# EAGLE library part NHD-0420DZW-AG5 (library Display)
20 x 4 Character OLED DIsplay Module
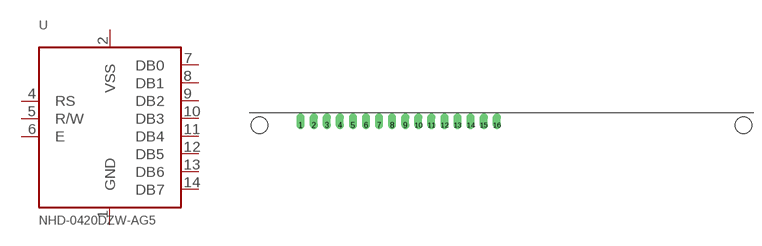
[diagram p0: symbol with the pads of CHARLCD_16PIN; footprint CHARLCD_16PIN]

Designator prefix -

## NHD-0420DZW-AG5  [CHARLCD_16PIN]
1  GND
2  VSS
4  RS
5  R/W
6  E
7  DB0
8  DB1
9  DB2
10  DB3
11  DB4
12  DB5
13  DB6
14  DB7

## Footprint CHARLCD_16PIN (pad centres in mm)
LCD 20x4 Newhaven Character OLED
drill 1 pad 1.6 offset: 1 -39,27.5; 2 -36.46,27.5; 3 -33.92,27.5; 4 -31.38,27.5; 5 -28.84,27.5; 6 -26.3,27.5; 7 -23.76,27.5; 8 -21.22,27.5; 9 -18.68,27.5; 10 -16.14,27.5; 11 -13.6,27.5; 12 -11.06,27.5; 13 -8.52,27.5; 14 -5.98,27.5; 15 -3.44,27.5; 16 -0.9,27.5
hole 3.175 at -47,27.5
hole 3.175 at 47,27.5